# Altium footprint library SamacSys.PcbLib: 22 footprints (part 2 of 2)
Each footprint in its own frame and in the unit in brackets; x right, y up, seen from the top. Pads: shape width x height; smd on the part's side, far side on the other; paste and mask are expansions set on the pad; w line width, h text height; cw(c..) or ccw(c..) is an arc to the next point about the centre after c.
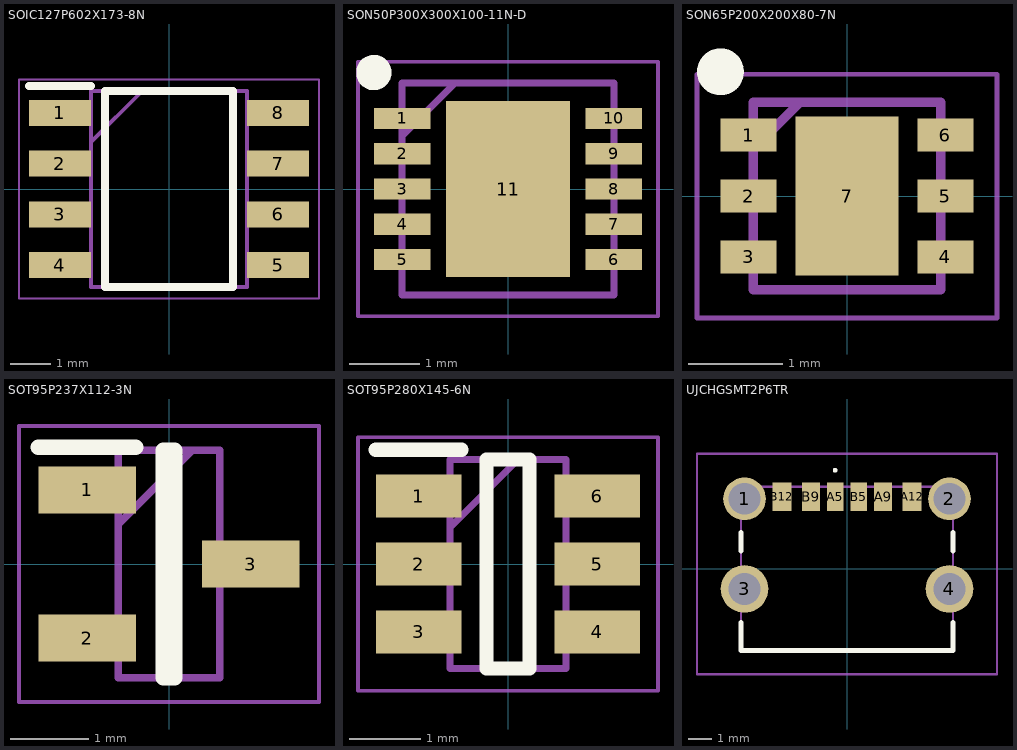
[diagram p1: the footprints below, top view; thin cyan lines are the x and y axes]

## SOIC127P602X173-8N [mm]
pads (8):
  rect 1.551x0.65 smd: 1(-2.725,1.905) 2(-2.725,0.635) 3(-2.725,-0.635) 4(-2.725,-1.905) 5(2.725,-1.905) 6(2.725,-0.635) 7(2.725,0.635) 8(2.725,1.905)
Top Overlay:
  lines w0.2: -3.5,2.58 -1.949,2.58 ; -1.599,-2.444 -1.599,2.444 1.599,2.444 1.599,-2.444 -1.599,-2.444
Mechanical 13:
  lines w0.1: -1.949,1.174 -0.679,2.444 ; -1.949,-2.444 -1.949,2.444 1.949,2.444 1.949,-2.444 -1.949,-2.444
Mechanical 15:
  lines w0.05: -3.75,-2.739 -3.75,2.739 3.75,2.739 3.75,-2.739 -3.75,-2.739
3D body "FM24CL16B-GTR.stp": height 1.73, standoff 0, extent -3.01,-2.445 3.01,2.445

## SON50P300X300X100-11N-D [mm]
pads (11):
  rect 0.8x0.3 smd: 1(-1.5,1) 2(-1.5,0.5) 3(-1.5,0) 4(-1.5,-0.5) 5(-1.5,-1) 6(1.5,-1) 7(1.5,-0.5) 8(1.5,0) 9(1.5,0.5) 10(1.5,1)
  rect 1.75x2.5 smd: 11(0,0)
Top Overlay:
  circle w0.25: c-1.9,1.65 r0.125
Mechanical 13:
  lines w0.1: -1.5,0.75 -0.75,1.5 ; -1.5,-1.5 -1.5,1.5 1.5,1.5 1.5,-1.5 -1.5,-1.5
Mechanical 15:
  lines w0.05: -2.125,-1.8 -2.125,1.8 2.125,1.8 2.125,-1.8 -2.125,-1.8
3D body "TS3USB221DRCR.stp": height 1, standoff 0, extent -1.5,-1.5 1.5,1.5

## SON65P200X200X80-7N [mm]
pads (7):
  rect 0.6x0.35 smd: 1(-1.05,0.65) 2(-1.05,0) 3(-1.05,-0.65) 4(1.05,-0.65) 5(1.05,0) 6(1.05,0.65)
  rect 1.1x1.7 smd: 7(0,0)
Top Overlay:
  circle w0.25: c-1.35,1.325 r0.125
Mechanical 13:
  lines w0.1: -1,0.5 -0.5,1 ; -1,-1 -1,1 1,1 1,-1 -1,-1
Mechanical 15:
  lines w0.05: -1.6,-1.3 -1.6,1.3 1.6,1.3 1.6,-1.3 -1.6,-1.3
3D body "TLV76733DRVR.stp": height 0.8, standoff 0, extent -1,-1 1,1

## SOT95P237X112-3N [mm]
pads (3):
  rect 1.25x0.6 smd: 1(-1.05,0.95) 2(-1.05,-0.95) 3(1.05,0)
Top Overlay:
  lines w0.2: -1.675,1.5 -0.425,1.5 ; -0.075,-1.46 -0.075,1.46 0.075,1.46 0.075,-1.46 -0.075,-1.46
Mechanical 13:
  lines w0.1: -0.65,0.51 0.3,1.46 ; -0.65,-1.46 -0.65,1.46 0.65,1.46 0.65,-1.46 -0.65,-1.46
Mechanical 15:
  lines w0.05: -1.925,-1.77 -1.925,1.77 1.925,1.77 1.925,-1.77 -1.925,-1.77
3D body "LM4040BIM3-3.0_NOPB.stp": height 1, standoff 0, extent -1.27,-1.46 1.27,1.46

## SOT95P280X145-6N [mm]
pads (6):
  rect 1.2x0.6 smd: 1(-1.25,0.95) 2(-1.25,0) 3(-1.25,-0.95) 4(1.25,-0.95) 5(1.25,0) 6(1.25,0.95)
Top Overlay:
  lines w0.2: -1.85,1.6 -0.65,1.6 ; -0.3,-1.462 -0.3,1.462 0.3,1.462 0.3,-1.462 -0.3,-1.462
Mechanical 13:
  lines w0.1: -0.812,0.512 0.138,1.462 ; -0.812,-1.462 -0.812,1.462 0.812,1.462 0.812,-1.462 -0.812,-1.462
Mechanical 15:
  lines w0.05: -2.1,-1.775 -2.1,1.775 2.1,1.775 2.1,-1.775 -2.1,-1.775
3D body "USBLC6-2SC6.stp": height 1.45, standoff 0, extent -1.4,-1.462 1.4,1.462

## UJCHGSMT2P6TR [mm]
pads (10):
  round 1.8 hole 1.34: 1(-4.32,2.95) 2(4.32,2.95)
  round 2.01 hole 1.34: 3(-4.32,-0.85) 4(4.32,-0.85)
  rect 0.7x1.2 smd: A5(-0.5,3.03) B5(0.5,3.03)
  rect 0.76x1.2 smd: A9(1.52,3.03) B9(-1.52,3.03)
  rect 0.8x1.2 smd: A12(2.75,3.03) B12(-2.75,3.03)
Top Overlay:
  lines w0.1: -0.5,4.1 ccw(c-0.5,4.15) -0.5,4.2 ccw(c-0.5,4.15) -0.5,4.1
  lines w0.2: -4.47,-2.267 -4.47,-3.45 4.47,-3.45 4.47,-2.267 ; -4.47,0.733 -4.47,1.533 ; 4.47,0.733 4.47,1.533
Mechanical 13:
  lines w0.1: -4.47,-3.45 4.47,-3.45 4.47,3.45 -4.47,3.45 -4.47,-3.45
Mechanical 15:
  lines w0.1: -6.325,-4.45 6.325,-4.45 6.325,4.85 -6.325,4.85 -6.325,-4.45
3D body "UJC-H-G-SMT-2-P6-TR.stp": height 3.2, standoff -1.96, extent -4.47,-3.25 4.47,3.65